# EAGLE library part LM339N (library CameraTags)
LM339N Texas Instruments Quad Comparator Differential CMOS, MOS, Open-Collector, TTL 14-PDIP https://www.digikey.com/product-detail/en/texas-instruments/LM339N/296-1393-5-ND/277628
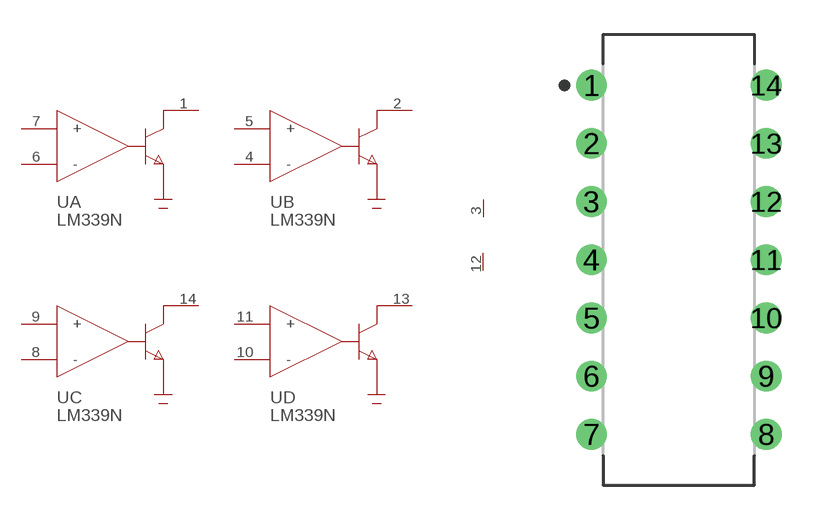
[diagram p21: symbol with the pads of DIP14; footprint DIP14]

Designator prefix -; gates A=OP_AMP_COMPARATOR B=OP_AMP_COMPARATOR C=OP_AMP_COMPARATOR D=OP_AMP_COMPARATOR G$5=VCC-GND

## LM339N  [DIP14]
1  A:OUT
2  B:OUT
3  G$5:VCC
4  B:-
5  B:+
6  A:-
7  A:+
8  C:-
9  C:+
10  D:-
11  D:+
12  G$5:GND
13  D:OUT
14  C:OUT

## Footprint DIP14 (pad centres in mm)
14-DIP, 2.54 mm (0.10 in) pitch, 7.62 mm (0.30 in) span, 19.69 X 6.60 X 5.08 mm body 14-pin DIP package with 2.54 mm (0.10 in) pitch, 7.62 mm (0.30 in) span with body size 19.69 X 6.60 X 5.08 mm
drill 0.743 pad 1.343: 1 -3.81,7.62; 2 -3.81,5.08; 3 -3.81,2.54; 4 -3.81,0; 5 -3.81,-2.54; 6 -3.81,-5.08; 7 -3.81,-7.62; 8 3.81,-7.62; 9 3.81,-5.08; 10 3.81,-2.54; 11 3.81,0; 12 3.81,2.54; 13 3.81,5.08; 14 3.81,7.62